# Altium schematic symbol library VT1206BRD071ML.SchLib: 1 symbol
Pins are listed as number, name and electrical type; pins without a type are passive.

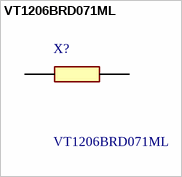
[diagram p0: symbol VT1206BRD071ML]

## VT1206BRD071ML
designator X?
Maximum operating voltage up to 700V AEC-Q200 qualified Total lead free without RoHS exemption  Halogen free epoxy  Superior resistance against sulfur containing atmosphere  Moisture sensitivity level: MSL 1  Reducing environmentally hazardous wastes  High component and equipment reliability  Non-forbidden materials used in products/production; Manufacturer_Name: Yageo Group; Geometry.Height: 0.65mm; Mouser Part Number: 603-VT1206BRD071ML; Mouser Price/Stock: https://www.mouser.co.uk/ProductDetail/YAGEO/VT1206BRD071ML?qs=3Rah4i%252BhyCEWkKnEXFphuw%3D%3D; Manufacturer_Part_Number: VT1206BRD071ML; Datasheet Link: https://www.mouser.kr/datasheet/2/447/PYu_VT_51_RoHS_L_0-3159401.pdf
footprint RESC3116X65N
pins: 1, 2